# EAGLE library part HR911105A (library electronic-labs)
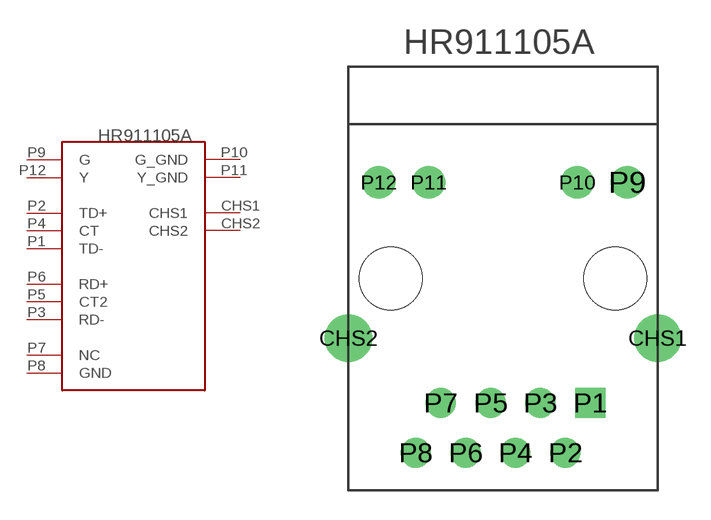
[diagram p13: symbol with the pads of HR911105A; footprint HR911105A]

Designator prefix X

## HR911105A  [HR911105A]
CHS1  CHS1
CHS2  CHS2
P1  TD-
P2  TD+
P3  RD-
P4  CT
P5  CT2
P6  RD+
P7  NC
P8  GND
P9  G
P10  G_GND
P11  Y_GND
P12  Y

## Footprint HR911105A (pad centres in mm)
Ethernet connector J0011D21B PulseJack ( www.pulseeng.com )
drill 1.6: CHS1 7.874,-3.048; CHS2 -7.874,-3.048
drill 0.889 pad 1.524 square: P1 4.445,-6.35
drill 0.889 pad 1.524: P2 3.175,-8.89; P3 1.905,-6.35; P4 0.635,-8.89; P5 -0.635,-6.35; P6 -1.905,-8.89; P7 -3.175,-6.35; P8 -4.445,-8.89
drill 1.016 pad 1.676: P9 6.325,4.902; P10 3.785,4.902; P11 -3.785,4.902; P12 -6.325,4.902
hole 3.2 at -5.715,0
hole 3.2 at 5.715,0